# Altium schematic symbol library GSOT04C-HE3-08.SchLib: 1 symbol
Pins are listed as number, name and electrical type; pins without a type are passive.

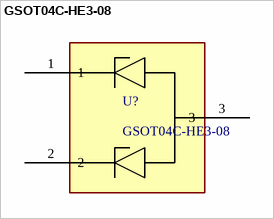
[diagram p0: symbol GSOT04C-HE3-08]

## GSOT04C-HE3-08
designator U?
ESD PROTECTION DIODE SOT23; Manufacturer_Name: Vishay; Copyright: Copyright (C) 2025 Ultra Librarian. All rights reserved.; Manufacturer_Part_Number: GSOT04C-HE3-08; Datasheet: https://www.vishay.com/doc?85824; RefDes: RefDes; Type: Type
footprint SOT_C-HE3-08_VIS
pins: 1, 2, 3